# EAGLE library part USB_B_PCB (library custom)
BERG USB connector
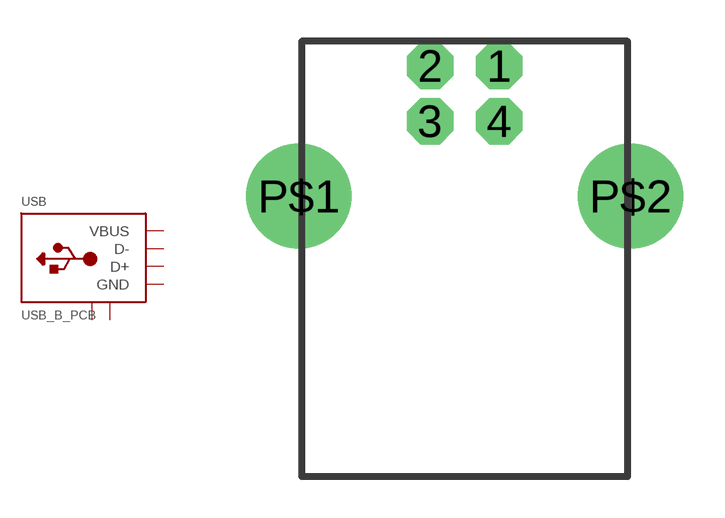
[diagram p14: symbol with the pads of SMARTPRJ_PN61729; footprint SMARTPRJ_PN61729]

Designator prefix USB

## USB_B_PCB  [SMARTPRJ_PN61729]
1  VBUS  pwr
2  D-
3  D+
4  GND  pwr
P$1  T
P$2  S

## Footprint SMARTPRJ_PN61729 (pad centres in mm)
BERG
drill 0.95 pad 1.676 octagon: 1 1.25,4.71; 2 -1.25,4.71; 3 -1.25,2.71; 4 1.25,2.71
drill 2.2 pad 3.81: P$1 -6,0; P$2 6,0